# Altium footprint library FH12-22S-0.5SH(55).PcbLib: 1 footprints
Each footprint in its own frame and in the unit in brackets; x right, y up, seen from the top. Pads: shape width x height; smd on the part's side, far side on the other; paste and mask are expansions set on the pad; w line width, h text height; cw(c..) or ccw(c..) is an arc to the next point about the centre after c.
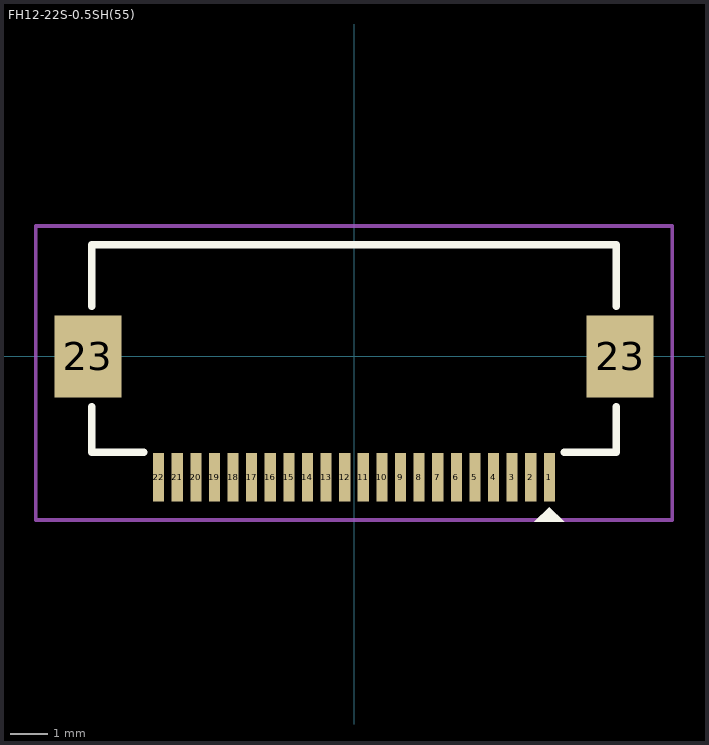
[diagram p0: the footprint, top view; thin cyan lines are the x and y axes]

## FH12-22S-0.5SH(55) [mm]
pads (24):
  rect 0.3x1.3 smd: 1(5.25,-3.25) 2(4.75,-3.25) 3(4.25,-3.25) 4(3.75,-3.25) 5(3.25,-3.25) 6(2.75,-3.25) 7(2.25,-3.25) 8(1.75,-3.25) 9(1.25,-3.25) 10(0.75,-3.25) 11(0.25,-3.25) 12(-0.25,-3.25) 13(-0.75,-3.25) 14(-1.25,-3.25) 15(-1.75,-3.25) 16(-2.25,-3.25) 17(-2.75,-3.25) 18(-3.25,-3.25) 19(-3.75,-3.25) 20(-4.25,-3.25) 21(-4.75,-3.25) 22(-5.25,-3.25)
  rect 1.8x2.2 smd: 23(-7.15,0) 23(7.15,0)
Top Overlay:
  region: 5.65,-4.45 4.85,-4.45 5.25,-4.05
  lines w0.2: -7.05,-1.35 -7.05,-2.575 -5.65,-2.575 ; -7.05,1.35 -7.05,3 7.05,3 7.05,1.35 ; 5.65,-2.575 7.05,-2.575 7.05,-1.35
Top Courtyard:
  lines w0.1: -8.55,-4.4 -5.25,-4.4 8.55,-4.4 8.55,3.5 -8.55,3.5 -8.55,-4.4
3D body "FH12-22S-0.5SH.stp": height 2.09, standoff -0.01, extent -7.55,-3.4 7.55,3